# Altium schematic symbol library TeknoFest.SchLib: 41 symbols
Pins are listed as number, name and electrical type; pins without a type are passive.

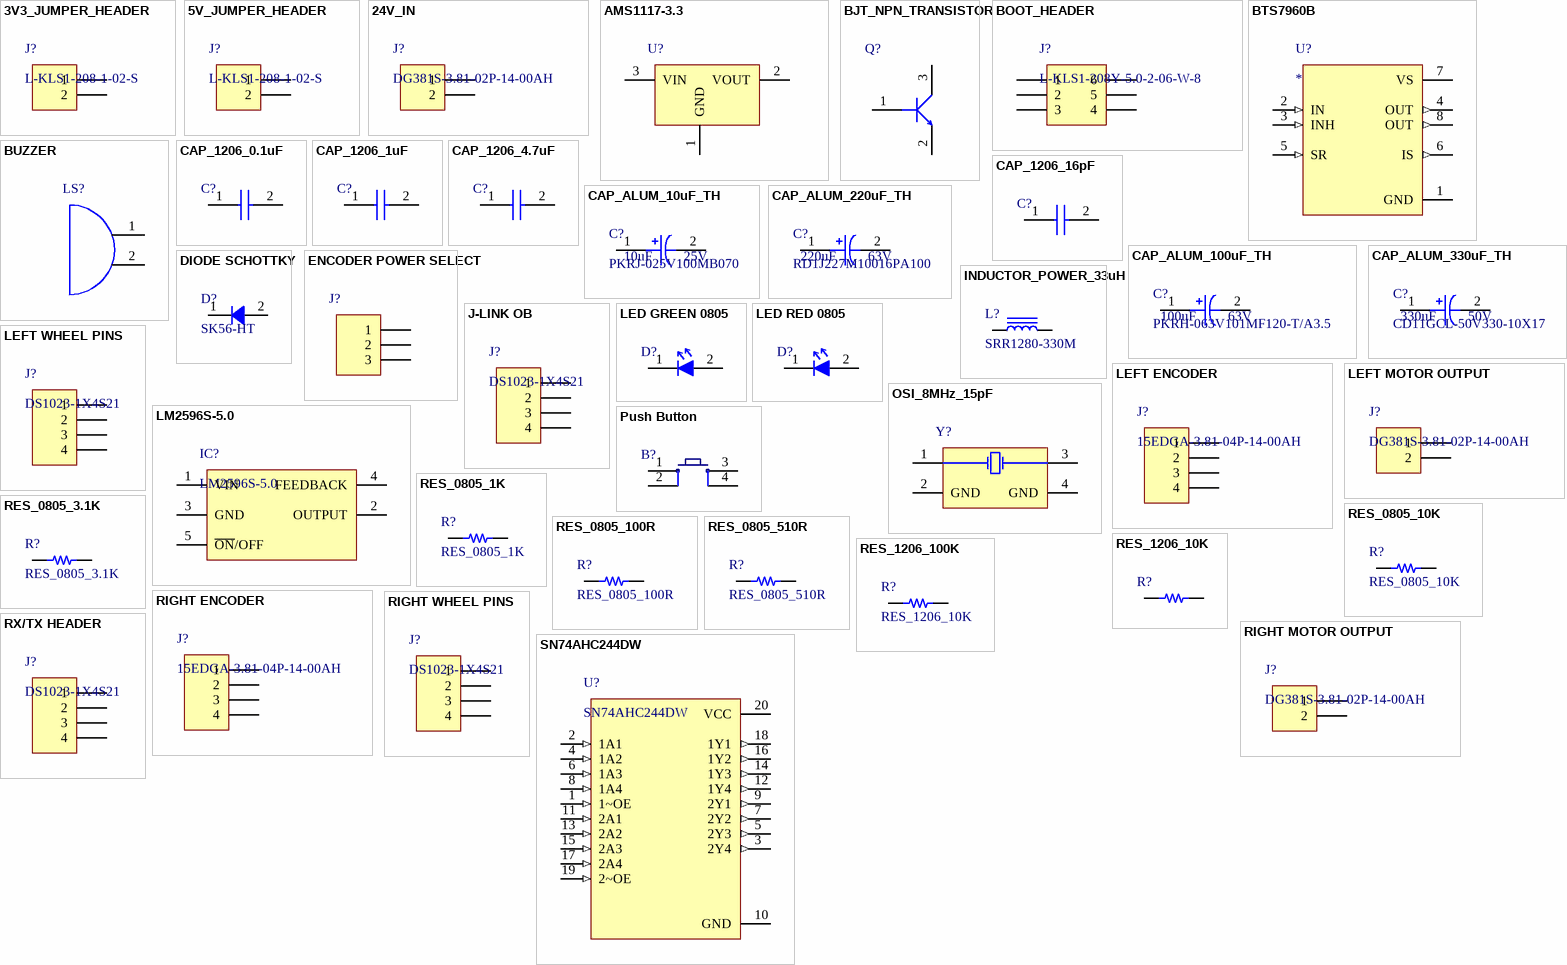
[diagram p0: symbols 3V3_JUMPER_HEADER to SN74AHC244DW]

## 3V3_JUMPER_HEADER
designator J?, comment L-KLS1-208-1-02-S
FEMALE HEADER 2PIN(1x2) 2.54mm THT V/T TRAY; ComponentLink1Description: New link; ComponentLink1URL: https://ozdisan.com/konnektor-ve-baglanti-elemanlari/header-konnektorler/disi-headerlar/L-KLS1-208-1-02-S/596182
footprint 3V3 JUMPER
pins: 1, 2

## 5V_JUMPER_HEADER
designator J?, comment L-KLS1-208-1-02-S
FEMALE HEADER 2PIN(1x2) 2.54mm THT V/T TRAY; ComponentLink1Description: New link; ComponentLink1URL: https://ozdisan.com/konnektor-ve-baglanti-elemanlari/header-konnektorler/disi-headerlar/L-KLS1-208-1-02-S/596182
footprint 5V JUMPER
pins: 1, 2

## 24V_IN
designator J?, comment DG381S-3.81-02P-14-00AH
TERM.BLK.3.81MM 2P PCB TYPE GREEN; ComponentLink1Description: New link; ComponentLink1URL: https://ozdisan.com/Product/Detail/440917/DG381S-3-81-02P-14-00AH
footprint 24V_IN KONNEKTÖR
pins: 1, 2

## AMS1117-3.3
designator U?  (value not drawn)
IC-1117 V.REG. 1A 3V3 SOT223 SMD AMS; Manufacturer: UMW(Youtai Semiconductor Co., Ltd.); Designed by: Mustafa oğuz Ateş; Supplier: Digikey; Supplier Part Number: 4518-AMS1117-3.3CT-ND; Manufacturer Part Number: AMS1117-3.3; RoHS: No; Category: Uncategorized; Pricing: 1=0,48, 10=0,388, 25=0,3552, 100=0,2644, 250=0,2396, 500=0,19828, 1000=0,14871 (USD)
footprint SOT-223
pins: 1 GND, 2 VOUT, 3 VIN
text: /

## BJT_NPN_TRANSISTOR
designator Q?, comment MMBT3904-7-F  (value not drawn)
MMBT3904-7-F - TRANSISTOR DIS.200mA 40V NPN SOT23 SMT/ ÖZDİSAN; Manufacturer: Diodes Zetex; Designed by: MOA; Max Power Dissipation: 300mW; Max Collector Current: 200mA; Collector Base Voltage (VCBO): 60V; Frequency: 300MHz; hFE Min: 100; Number of Elements: 1; Emitter Base Voltage (VEBO): 6V; Collector Emitter Saturation Voltage: 300mV; Power Dissipation: 350mW; Element Configuration: Single; Manufacturer Part Number: MMBT3904-7-F; RoHS: Yes; Category: BJTs; Stock 1: 2393281; Pricing 1: 1=0,12000, 10=0,08600, 25=0,08280, 100=0,04660, 500=0,03664, 1000=0,02544 (USD); Mount: Surface Mount; Case/Package: SOT-23; Number of Pins: 3; Weight: 0.000282oz; Contact Plating: Tin,Matte; Min Operating Temperature: -55°C; Max Operating Temperature: 150°C; Collector Emitter Voltage (VCEO): 40V; Polarity: NPN; Packaging: Tape and Reel; Package Quantity: 3000; Transition Frequency: 300MHz; Collector Emitter Breakdown Voltage: 40V; Max Breakdown Voltage: 40V; Continuous Collector Current: 200mA; Max Frequency: 300MHz; Gain Bandwidth Product: 300MHz; Series: -; Collector-emitter Voltage-Max: 300mV; Voltage Rating (DC): 40V; Length: 3.05mm; Width: 1.4mm; Height: 1mm; Radiation Hardening: No; REACH SVHC: No SVHC; Lead Free: Lead Free; RoHS Compliant: Yes; ComponentLink1URL: https://datasheet.ciiva.com/11201/ds30036-11201778.pdf?src-supplier=Avnet; ComponentLink1Description: https://datasheet.ciiva.com/11201/ds30036-11201778.pdf?src-supplier=Avnet; Supplier Part Number 1: MMBT3904-FDIDKR-ND; ComponentLink7Description: New link; ComponentLink7URL: https://ozdisan.com/Product/Detail/609899/MMBT3904-7-F
footprint SOT-23F
pins: 1 B (power), 2 E (power), 3 C (power)

## BOOT_HEADER
designator J?, comment L-KLS1-208Y-5.0-2-06-W-8
FEMALE HEADER 6PIN(2X3) 2.54MM THT V/T 8x7.62 TUBE; ComponentLink1Description: New link; ComponentLink1URL: https://ozdisan.com/Product/Detail/652771/L-KLS1-208Y-5-0-2-06-W-8
footprint BOOT_HEADER_2.54MM_2X3PINS (2.54mm DIL PC TAIL PIN HEADER ASSEMBLY)
pins: 1, 2, 3, 4, 5, 6

## BTS7960B
designator U?
Half Bridge Driver DC Motors, General Purpose DMOS PG-TO263-7-1
footprint DPAK127P1490X440-8N
pins: 1 GND (power), 2 IN (in), 3 INH (in), 4 OUT (out), 5 SR (in), 6 IS (out), 7 VS (power), 8 OUT (out)

## BUZZER
designator LS?, comment CMI-9605IC-0580T  (value not drawn)
Audio Buzzer Magnetic 3VDC 7VDC 30mA 5VDC 85dB 2600Hz to 2800Hz Through Hole Pin Box; Manufacturer: CUI Devices; Designed by: Mustafa; Supplier: Digi-Key; Supplier Part Number: 2223-CMI-9605IC-0580T-ND; Manufacturer Part Number: CMI-9605IC-0580T; RoHS: No; Category: Audio Products; Stock: 5910; Pricing: 1=1,22, 10=1,014, 25=0,938, 50=0,883, 100=0,8298, 250=0,76976, 500=0,71396, 1000=0,66741, 5000=0,65403 (USD); Case/Package: CMI-9605IC
footprint BUZZER
pins: 1, 2

## CAP_1206_0.1uF
designator C?  (value not drawn)
CAP CER 0.1 uF 1206
footprint CAP_1206_0.1uF
pins: 1, 2

## CAP_1206_1uF
designator C?  (value not drawn)
footprint CAP_1206_1uF
pins: 1, 2

## CAP_1206_4.7uF
designator C?, comment CAP CER 4.7 uF 1206  (value not drawn)
footprint CAP_1206_4.7uF
pins: 1, 2

## CAP_1206_16pF
designator C?  (value not drawn)
CAP CER 16pF 1206
footprint CAP_1206_16pF
pins: 1, 2

## CAP_ALUM_10uF_TH
designator C?, comment PKRJ-025V100MB070  value 10uF  Voltage - Rated: 25V
CAP.EL.10uF 25V 4x7 1.5MM 105C BULK KOSHIN; ComponentLink1Description: New link; ComponentLink1URL: https://www.ozdisan.com/pasif-komponentler/kapasitorler/aluminyum-kapasitorler/PKRJ-025V100MB070/345328
footprint CAP_ALUM_10uF_TH
pins: 1, 2

## CAP_ALUM_100uF_TH
designator C?, comment PKRH-063V101MF120-T/A3.5  value 100uF  Voltage - Rated: 63V
PKRH-063V101MF120-T/A3.5 - CAP.EL.100UF 63V 8x12 3.5MM 105C 5000h TB
footprint CAP_ALUM_100uF_8x12 3.5MM (PKRH-063V101MF120-T/A3.5 - CAP.EL.100UF 63V 8x12 3.5MM 105C 5000h TB)
pins: 1, 2

## CAP_ALUM_220uF_TH
designator C?, comment RD1J227M10016PA100  value 220uF  Voltage - Rated: 63V
CAP.EL.220uF 63V 10x16 5MM 105C
footprint CAP_ALUM_220uF_10x16 5MM
pins: 1, 2

## CAP_ALUM_330uF_TH
designator C?, comment CD11GCL-50V330-10X17  value 330uF  Voltage - Rated: 50V
CAP.EL.330UF 50V 10x17 5MM 105C
footprint CAP_ALUM_330uF_10x17 5MM
pins: 1, 2

## DIODE SCHOTTKY
designator D?, comment SK56-HT
5A 60V DO214AB SMC
footprint DIODE SCHOTTKY
pins: 1 2 "Cathode (-)", 2 "Anode (+)"

## ENCODER POWER SELECT
designator J?, comment DS1023-1X3S21  (value not drawn)
FEMALE HEADER 3PIN(1x3) 2.54mm THT V/T; ComponentLink1Description: New link; ComponentLink1URL: https://ozdisan.com/konnektor-ve-baglanti-elemanlari/header-konnektorler/disi-headerlar/DS1023-1X3S21/702380
footprint ENCODER POWER SELECT.1
pins: 1, 2, 3

## INDUCTOR_POWER_33uH
designator L?, comment SRR1280-330M
INDUCTOR POWER 33UH 3.5A SMD BOURNS
footprint INDUCTOR POWER (INDUCTOR POWER 33UH 3.5A SMD BOURNS)
pins: 1, 2

## J-LINK OB
designator J?, comment DS1023-1X4S21
FEMALE HEADER 4PIN(1x4) 2.54mm THT V/T TRAY; ComponentLink1Description: New link; ComponentLink1URL: https://ozdisan.com/konnektor-ve-baglanti-elemanlari/header-konnektorler/disi-headerlar/DS1023-1X4S21/353863
footprint J-LINK OB (2.54mm DIL PC TAIL PIN HEADER ASSEMBLY)
pins: 1, 2, 3, 4

## LED GREEN 0805
designator D?
KOMPONENT SEÇİLMEDİ; Manufacturer: Vishay Lite-On; Manufacturer Part Number: LTST-C171GKT; Designed by: Mustafa; Color: Green; Lens Color: Colorless; Viewing Angle: 130°; Lens Style: Diffused,Colorless,Rectangular,Clear; Luminous Intensity: 12mcd; Forward Current: 30mA; Forward Voltage: 2.1V; Power Rating: 100mW; Dominant Wavelength: 569nm; Test Current: 10mA; Lens Transparency: Clear; Number of Elements: 1; Wavelength: 585nm; Reverse Voltage: 5V; Supplier 1: Digi-Key; RoHS: Yes; Category: LEDs; Stock 1: 159023; Pricing 1: 1=0,26000, 10=0,14100, 100=0,06560, 500=0,06060, 1000=0,04747 (USD); Mount: Surface Mount; Case/Package: 0805; Number of Pins: 2; Case Code (Metric): 2012; Case Code (Imperial): 0805; Min Operating Temperature: -55°C; Max Operating Temperature: 85°C; Package Quantity: 1; Packaging: Tape and Reel; Illumination Color: Green; Power Dissipation: 100mW; Number of LEDs: 1; Series: CHIPLED 0805; Length: 2mm; Width: 1.25mm; Height: 0.8mm; Depth: 1.25mm; Radiation Hardening: No; Lead Free: Lead Free; RoHS Compliant: Yes; ComponentLink1URL: https://datasheet.ciiva.com/2110/ltst-c171gkt-2110000.pdf?src-supplier=Digi-Key; ComponentLink1Description: https://datasheet.ciiva.com/2110/ltst-c171gkt-2110000.pdf?src-supplier=Digi-Key; ComponentLink2URL: https://datasheet.ciiva.com/11773/0900766b80dc0296-11773991.pdf?src-supplier=RSComponents; ComponentLink2Description: https://datasheet.ciiva.com/11773/0900766b80dc0296-11773991.pdf?src-supplier=RSComponents; ComponentLink3URL: https://datasheet.ciiva.com/12400/lite-on-ltst-c171gkt-190133-12400647.pdf?src-supplier=Mouser; ComponentLink3Description: https://datasheet.ciiva.com/12400/lite-on-ltst-c171gkt-190133-12400647.pdf?src-supplier=Mouser; ComponentLink4URL: https://datasheet.ciiva.com/2110/ltst-c171gkt-2110001.pdf?src-supplier=Digi-Key; ComponentLink4Description: https://datasheet.ciiva.com/2110/ltst-c171gkt-2110001.pdf?src-supplier=Digi-Key; ComponentLink5URL: https://datasheet.ciiva.com/2110/ltst-c171gkt-2110002.pdf?src-supplier=Digi-Key; ComponentLink5Description: https://datasheet.ciiva.com/2110/ltst-c171gkt-2110002.pdf?src-supplier=Digi-Key; ComponentLink6URL: https://datasheet.ciiva.com/16396/ltst-c171gkt-16396549.pdf?src-supplier=Future+Electronics; ComponentLink6Description: https://datasheet.ciiva.com/16396/ltst-c171gkt-16396549.pdf?src-supplier=Future+Electronics; Supplier Part Number 1: 160-1423-1-ND
footprint LED_GREEN_0805
pins: 1 (power) "Cathode (-)", 2 (power) "Anode (-)"

## LED RED 0805
designator D?
KOMPONENT SEÇİLMEDİ; Manufacturer: Osram Opto; Manufacturer Part Number: LH R974-LP-1; Color: Red; Lens Color: White; Forward Voltage: 1.8V; Lens Style: Diffused,Flat,Colorless; Luminous Intensity: 71mcd; Viewing Angle: 160°; Forward Current: 30mA; Dominant Wavelength: 645nm; Number of Elements: 1; Test Current: 20mA; Reverse Voltage: 5V; Lens Transparency: Diffused; Luminous Flux: 0.17lm; Lens Size: 1.25mm; Designed by: Mustafa; Supplier 1: Digi-Key; RoHS: Yes; Category: LEDs; Stock 1: 35632; Pricing 1: 1=0,26000, 10=0,13900, 100=0,06480, 500=0,05978, 1000=0,04683, 2000=0,04584 (USD); Mount: Surface Mount; Case/Package: 0805; Number of Pins: 2; Case Code (Imperial): 0805; Case Code (Metric): 2012; Min Operating Temperature: -30°C; Max Operating Temperature: 85°C; Packaging: Tape and Reel; Illumination Color: Red; Package Quantity: 1; Series: CHipLED; Length: 2.1mm; Width: 1.25mm; Depth: 1.35mm; Radiation Hardening: No; RoHS Compliant: Yes; ComponentLink1URL: http://www.jameco.com/Jameco/Products/ProdDS/2085634.pdf?src-supplier=Jameco; ComponentLink1Description: http://www.jameco.com/Jameco/Products/ProdDS/2085634.pdf?src-supplier=Jameco; ComponentLink2URL: http://components.arrow.com/part/dataview/0323_01825492?src-supplier=Arrow+Europe; ComponentLink2Description: http://components.arrow.com/part/dataview/0323_01825492?src-supplier=Arrow+Europe; ComponentLink3URL: https://dammedia.osram.info/media/resource/hires/osram-dam-2493888/LH%20R974.pdf?src-supplier=Digi-Key; ComponentLink3Description: https://dammedia.osram.info/media/resource/hires/osram-dam-2493888/LH%20R974.pdf?src-supplier=Digi-Key; ComponentLink4URL: http://www.mouser.com/ds/2/311/LH%20R974%20-%20CHIPLED%200805-318659.pdf?src-supplier=Mouser; ComponentLink4Description: http://www.mouser.com/ds/2/311/LH%20R974%20-%20CHIPLED%200805-318659.pdf?src-supplier=Mouser; ComponentLink5URL: https://www.verical.com/server-webapp/html/getDatasheet?partID=258950&src-supplier=Verical; ComponentLink5Description: https://www.verical.com/server-webapp/html/getDatasheet?partID=258950&src-supplier=Verical; ComponentLink6URL: http://components.arrow.com/part/dataview/41971690S1077610N9133?src-supplier=Arrow+Electronics; ComponentLink6Description: http://components.arrow.com/part/dataview/41971690S1077610N9133?src-supplier=Arrow+Electronics; ComponentLink7URL: http://components.arrow.com/part/dataview/41971690S6190115N2128?src-supplier=Arrow+Electronics; ComponentLink7Description: http://components.arrow.com/part/dataview/41971690S6190115N2128?src-supplier=Arrow+Electronics; Supplier Part Number 1: 475-1415-1-ND
footprint LED_RED_0805
pins: 1 (power) "Cathode (-)", 2 (power) "Anode (+)"

## LEFT ENCODER
designator J?, comment 15EDGA-3.81-04P-14-00AH
TERM.BLK.3.81MM 4P FEMALE GREEN KLEMENS; ComponentLink1Description: New link; ComponentLink1URL: https://ozdisan.com/konnektor-ve-baglanti-elemanlari/klemensler/pcb-klemensler/15EDGA-3-81-04P-14-00AH/638461
footprint LEFT ENCODER
pins: 1, 2, 3, 4

## LEFT MOTOR OUTPUT
designator J?, comment DG381S-3.81-02P-14-00AH
DG381S-3.81-02P-14-00AH - TERM.BLK.3.81MM 2P PCB TYPE GREEN
footprint LEFT MOTOR OUTPUT CONNECTOR
pins: 1, 2

## LEFT WHEEL PINS
designator J?, comment DS1023-1X4S21
FEMALE HEADER 4PIN(1x4) 2.54mm THT V/T TRAY; ComponentLink1Description: New link; ComponentLink1URL: https://ozdisan.com/konnektor-ve-baglanti-elemanlari/header-konnektorler/disi-headerlar/DS1023-1X4S21/353863
footprint LEFT WHEEL PINS
pins: 1, 2, 3, 4

## LM2596S-5.0
designator IC?
LM2596S-5.0 - IC-2596 REG BUCK 5V 3A TO263-5; ComponentLink1Description: New link; ComponentLink1URL: https://ozdisan.com/entegre-devreler-icler/guc-entegreleri/dc-dc-voltaj-regulatorleri/LM2596S-5-0
footprint TO263-5 (D2PAK)
pins: 1 VIN, 2 OUTPUT, 3 GND, 4 FEEDBACK, 5 ~{ON}/OFF

## OSI_8MHz_15pF
designator Y?, comment ECS-2033-080-AU  (value not drawn)
CRYSTAL OSCILLATOR XO 8.0000MHZ CMOS SMD; Frequency: 8MHz; Capacitance: 15pF; Designed by: Mustafa oğuz ateş; ComponentLink1Description: New link; ComponentLink1URL: https://ozdisan.com/pasif-komponentler/kristaller-osilatorler-ve-rezanatorler/osilatorler/ECS-2033-080-AU/994835
footprint 8MHz-OSC
pins: 1 Tristate, 2 GND, 3 OUT, 4 GND

## Push Button
designator B?  (value not drawn)
KOMPONENT SEÇİLMEDİ SMD Push Button; Satın Alma Linki: https://urun.n11.com/diger/mini-pushbutton-switch-smd-P227461537?gclid=Cj0KCQjwkoDmBRCcARIsAG3xzl8Y_-jeD7HocNM6lvuZ_rVp83568XPGtNzlPwXWLph8oCRqo0yh87UaApZYEALw_wcB&gclsrc=aw.ds
footprint PUSH BUTTON-SMD
pins: 1, 2, 3, 4

## RES_0805_1K
designator R?
RES 0805 1K ohm
footprint RES_0805_1K
pins: 1, 8

## RES_0805_3.1K
designator R?
RES 0805 3.1K ohm
footprint RES_0805_3.1K
pins: 1, 8

## RES_0805_10K
designator R?
RES 0805 10K ohm
footprint RES_0805_10K
pins: 1, 8

## RES_0805_100R
designator R?
RES 0805 100 ohm
footprint RES_0805_100R
pins: 1, 8

## RES_0805_510R
designator R?
RES 0805 510 ohm
footprint RES_0805_510R
pins: 1, 8

## RES_1206_10K
designator R?  (value not drawn)
RES 1206 10K ohm
footprint RES_1206_10k
pins: 1, 8

## RES_1206_100K
designator R?, comment RES_1206_10K
RES 1206 100K ohm
footprint RES_1206_100K
pins: 1, 8

## RIGHT ENCODER
designator J?, comment 15EDGA-3.81-04P-14-00AH
TERM.BLK.3.81MM 4P FEMALE GREEN; ComponentLink1Description: New link; ComponentLink1URL: https://ozdisan.com/Product/Detail/638461/15EDGA-3-81-04P-14-00AH
footprint RIGHT ENCODER
pins: 1, 2, 3, 4

## RIGHT MOTOR OUTPUT
designator J?, comment DG381S-3.81-02P-14-00AH
DG381S-3.81-02P-14-00AH - TERM.BLK.3.81MM 2P PCB TYPE GREEN
footprint RIGHT MOTOR OUTPUT CONNECTOR
pins: 1, 2

## RIGHT WHEEL PINS
designator J?, comment DS1023-1X4S21
DS1023-1X4S21 - FEMALE HEADER 4PIN(1x4) 2.54mm THT V/T TRAY; ComponentLink1Description: New link; ComponentLink1URL: https://ozdisan.com/konnektor-ve-baglanti-elemanlari/header-konnektorler/disi-headerlar/DS1023-1X4S21/353863
footprint RIGHT WHEEL PINS
pins: 1, 2, 3, 4

## RX/TX HEADER
designator J?, comment DS1023-1X4S21
FEMALE HEADER 4PIN(1x4) 2.54mm THT V/T TRAY; ComponentLink1Description: New link; ComponentLink1URL: https://ozdisan.com/konnektor-ve-baglanti-elemanlari/header-konnektorler/disi-headerlar/DS1023-1X4S21/353863
footprint RX/TX HEADER
pins: 1, 2, 3, 4

## SN74AHC244DW
designator U?
Buffer, Non-Inverting 2 Element 4 Bit per Element 3-State Output 20-SOIC
footprint SOIC-20
pins: 1 1~OE (in), 2 1A1 (in), 3 2Y4 (out), 4 1A2 (in), 5 2Y3 (out), 6 1A3 (in), 7 2Y2 (out), 8 1A4 (in), 9 2Y1 (out), 10 GND (power), 11 2A1 (in), 12 1Y4 (out), 13 2A2 (in), 14 1Y3 (out), 15 2A3 (in), 16 1Y2 (out), 17 2A4 (in), 18 1Y1 (out), 19 2~OE (in), 20 VCC (power)

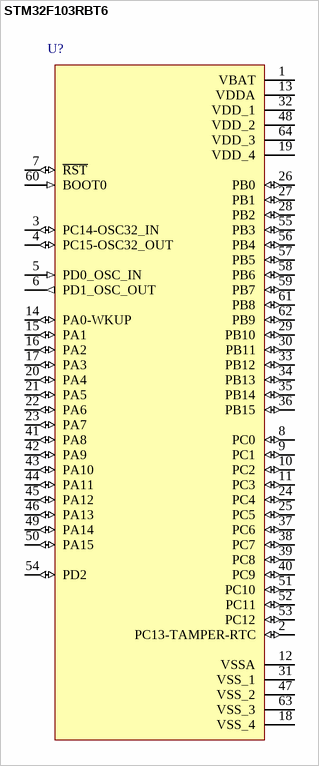
[diagram p1: symbol STM32F103RBT6]

## STM32F103RBT6
designator U?  (value not drawn)
STM32F103RTB6 LQFP-64; MF: STMicroelectronics; Designed by: Mustafa Oğuz Ateş; Package: LQFP-64 STMicroelectronics; Price: None; Check_prices: https://www.snapeda.com/parts/STM32F103RBT6/STMicroelectronics/view-part/?ref=eda; Value: *; SnapEDA_Link: https://www.snapeda.com/parts/STM32F103RBT6/STMicroelectronics/view-part/?ref=snap; MP: STM32F103RBT6; Availability: In Stock; Purchase-URL: https://pricing.snapeda.com/search?q=STM32F103RBT6&ref=eda
footprint LQFP-64
pins: 1 VBAT (power), 2 PC13-TAMPER-RTC (io), 3 PC14-OSC32_IN (io), 4 PC15-OSC32_OUT (io), 5 PD0_OSC_IN (in), 6 PD1_OSC_OUT (out), 7 ~{RST} (io), 8 PC0 (io), 9 PC1 (io), 10 PC2 (io), 11 PC3 (io), 12 VSSA (power), 13 VDDA (power), 14 PA0-WKUP (io), 15 PA1 (io), 16 PA2 (io), 17 PA3 (io), 18 VSS_4 (power), 19 VDD_4 (power), 20 PA4 (io), 21 PA5 (io), 22 PA6 (io), 23 PA7 (io), 24 PC4 (io), 25 PC5 (io), 26 PB0 (io), 27 PB1 (io), 28 PB2 (io), 29 PB10 (io), 30 PB11 (io), 31 VSS_1 (power), 32 VDD_1 (power), 33 PB12 (io), 34 PB13 (io), 35 PB14 (io), 36 PB15 (io), 37 PC6 (io), 38 PC7 (io), 39 PC8 (io), 40 PC9 (io), 41 PA8 (io), 42 PA9 (io), 43 PA10 (io), 44 PA11 (io), 45 PA12 (io), 46 PA13 (io), 47 VSS_2 (power), 48 VDD_2 (power), 49 PA14 (io), 50 PA15 (io), 51 PC10 (io), 52 PC11 (io), 53 PC12 (io), 54 PD2 (io), 55 PB3 (io), 56 PB4 (io), 57 PB5 (io), 58 PB6 (io), 59 PB7 (io), 60 BOOT0 (in), 61 PB8 (io), 62 PB9 (io), 63 VSS_3 (power), 64 VDD_3 (power)